# Altium schematic symbol library CH340T.SchLib: 1 symbol
Pins are listed as number, name and electrical type; pins without a type are passive.

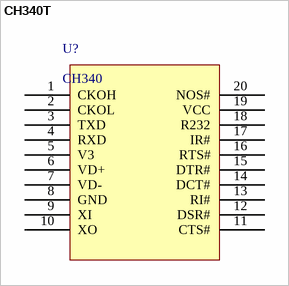
[diagram p0: symbol CH340T]

## CH340T
designator U?, comment CH340
footprint DIP20
pins: 1 CKOH, 2 CKOL, 3 TXD, 4 RXD, 5 V3, 6 VD+, 7 VD-, 8 GND, 9 XI, 10 XO, 11 CTS#, 12 DSR#, 13 RI#, 14 DCT#, 15 DTR#, 16 RTS#, 17 IR#, 18 R232, 19 VCC, 20 NOS#